# Altium footprint library TimerSMD_Models.PcbLib: 32 footprints (part 2 of 2)
Each footprint in its own frame and in the unit in brackets; x right, y up, seen from the top. Pads: shape width x height; smd on the part's side, far side on the other; paste and mask are expansions set on the pad; w line width, h text height; cw(c..) or ccw(c..) is an arc to the next point about the centre after c.
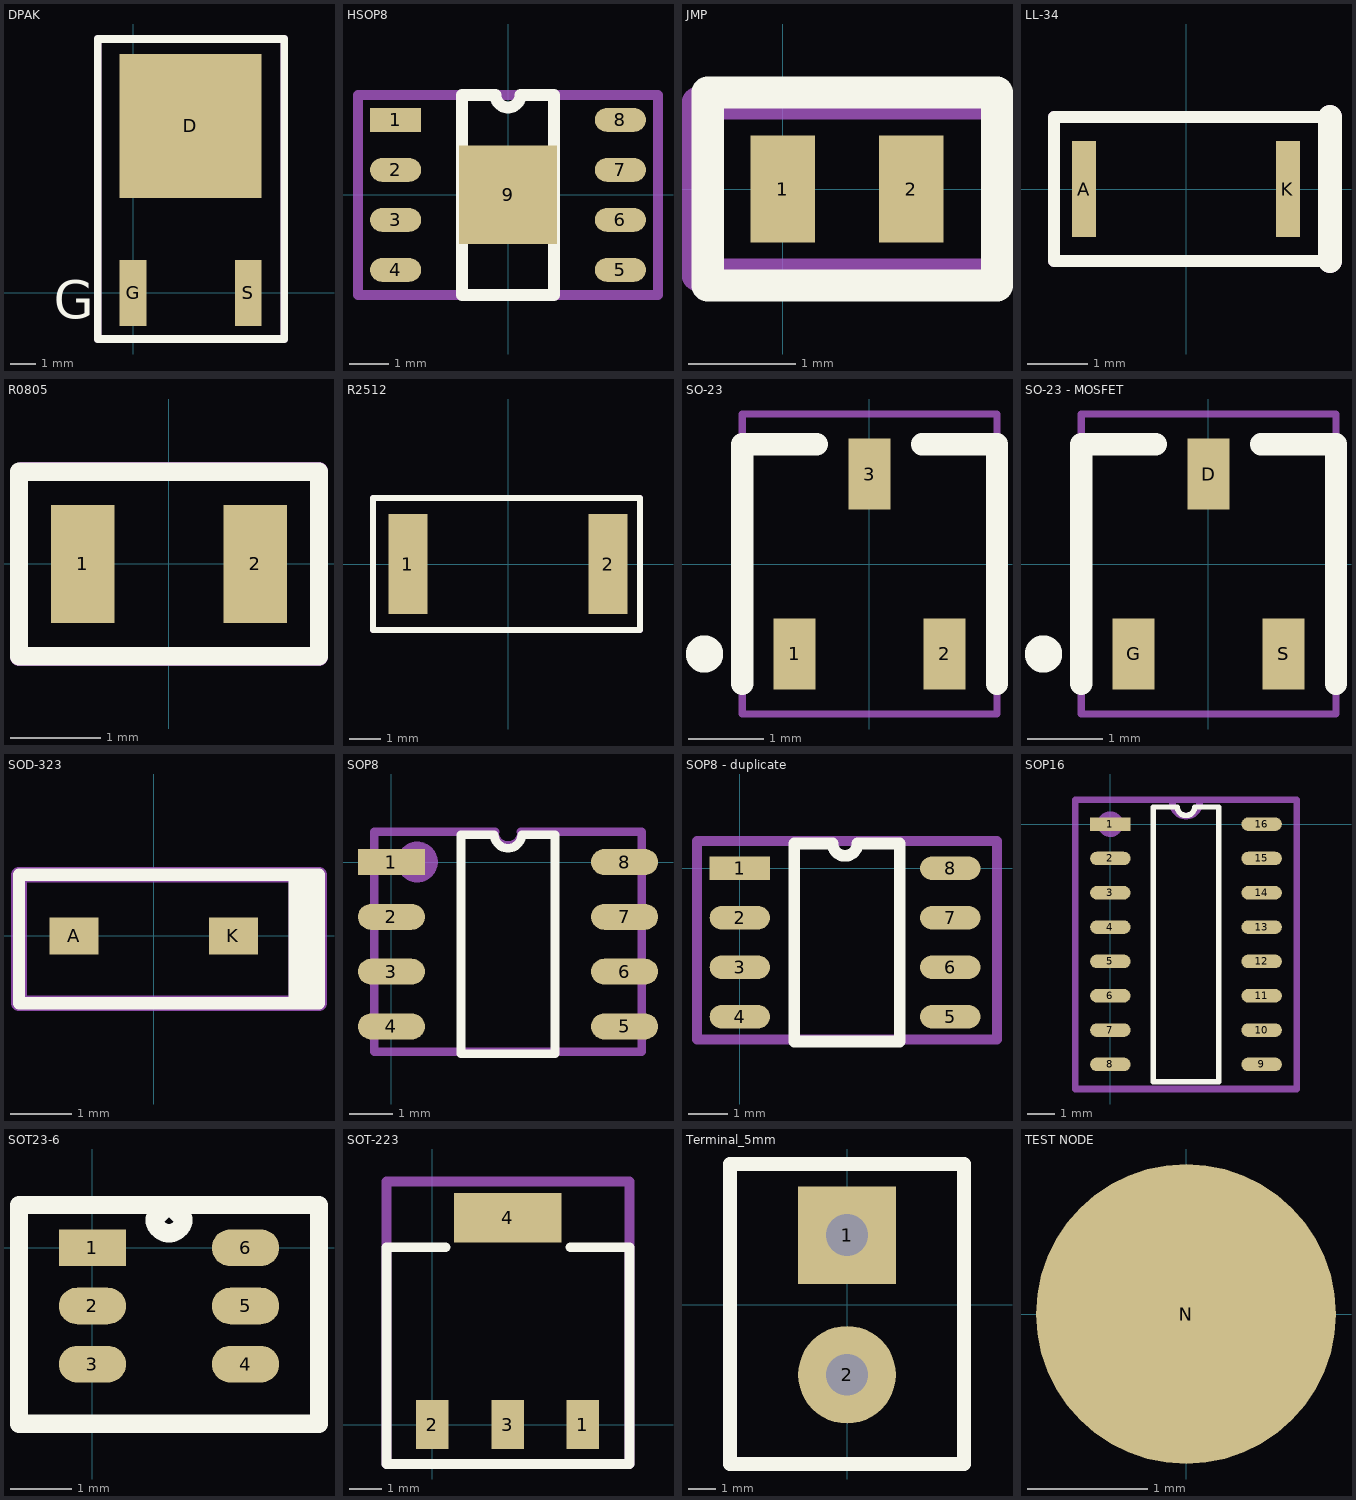
[diagram p1: the footprints below, top view; thin cyan lines are the x and y axes]

## DPAK [mm]
pads (3):
  rect 5.632x5.7 smd: D(2.275,6.625)
  rect 1.06x2.6 smd: G(0,0) S(4.572,0)
Top Overlay:
  lines w0.3: -1.4,-1.825 -1.4,8.225 -1.4,10.075 6,10.075 6,-1.825 -1.4,-1.825
  text "G" at -3.15,-1.025 h1.5
Mechanical 2:
  lines w0.3: -1.4,-1.825 -1.4,8.225 -1.4,10.075 6,10.075 6,-1.825 -1.4,-1.825
  text ".Designator" at -0.375,3.425 h1.5
3D body "TO252 Gehäuse.step": height 2.3, standoff -0.05, extent -0.975,-0.5 5.525,8.2

## HSOP8 [mm]
pads (9):
  rect 1.3x0.6 smd: 1(-2.854,1.905)
  oval 1.3x0.6 smd: 2(-2.854,0.635) 3(-2.854,-0.635) 4(-2.854,-1.905) 5(2.854,-1.905) 6(2.854,-0.635) 7(2.854,0.635) 8(2.854,1.905)
  rect 2.5x2.5 smd: 9(0,0)
Top Overlay:
  lines w0.3: -1.165,-2.54 1.165,-2.54 1.165,2.54 0.318,2.54 cw(c0,2.54) -0.318,2.54 -1.165,2.54 -1.165,-2.54
Mechanical 2:
  lines w0.254: -3.81,-2.54 -3.81,2.413 -3.81,2.54 3.81,2.54 3.81,-2.54 -3.81,-2.54
  text ".Designator" at -3.175,-1.016 h1.52
3D body "User Library-HSOP-8-DDA.step": height 1.7, standoff 0, extent -3.074,-2.346 2.954,2.346

## JMP [mm]
pads (2):
  rect 0.6x1 smd: 1(0,0) 2(1.2,0)
Top Overlay:
  lines w0.3: -0.7,-0.9 2,-0.9 2,0.9 -0.7,0.9 -0.7,-0.9
Mechanical 2:
  lines w0.3: -0.8,-0.8 2,-0.8 2,0.8 -0.8,0.8 -0.8,-0.8
  text ".Designator" at -0.2,-0.367 h0.7

## LL-34 [mm]
pads (2):
  rect 0.4x1.6 smd: A(-1.7,0) K(1.7,0)
Top Overlay:
  lines w0.2: 2.4,-1.2 -2.2,-1.2 -2.2,1.2 2.4,1.2
  lines w0.4: 2.4,-1.2 2.4,1.2
Mechanical 2:
  lines w0.2: 2.4,-1.2 -2.2,-1.2 -2.2,1.2 2.4,1.2
  lines w0.4: 2.4,-1.2 2.4,1.2
  text ".Designator" at -1.6,-0.6 h1
3D body "LL-34.step": height 1.45, standoff -0.05, extent -1.75,-0.75 1.75,0.75

## R0805 [mm]
pads (2):
  rect 0.7x1.3 smd: 1(-0.95,0) 2(0.95,0)
Top Overlay:
  lines w0.2: -1.651,-1.016 -1.651,1.016 1.651,1.016 1.651,-1.016 -1.651,-1.016
Mechanical 2:
  lines w0.2: 1.65,1.025 1.65,-1.025 -1.65,-1.025 -1.65,1 -1.625,1.025 1.65,1.025 ; 1.65,1.025 1.65,1.025
  text ".Designator" at -0.75,-0.425 h1
3D body "User Library-Chip Resistor2.step": height 0.71, standoff 0.01, extent -1,-0.6 1,0.6

## R2512 [mil]
pads (2):
  rect 49x125 smd: 1(-125.5,0) 2(125.5,0)
Top Overlay:
  lines w7.87: -169.29,-82.68 -169.29,16.63 -169.29,82.68 165.35,82.68 165.35,-82.68 -169.29,-82.68
Mechanical 2:
  lines w7.87: -169.29,-82.68 -169.29,16.63 -169.29,82.68 165.35,82.68 165.35,-82.68 -169.29,-82.68
  text ".Designator" at -114.17,-19.68 h39.37
3D body "CircuitWorks-RESISTOR 2512.step": height 24.52, standoff 0.5, extent -125,-64.17 125,64.17

## SO-23 [mm]
pads (3):
  rect 0.56x0.95 smd: 1(-1,-1.2) 2(1,-1.2) 3(0,1.2)
Top Overlay:
  circle w0.3: c-2.2,-1.2 r0.1
  lines w0.3: -1.7,-1.6 -1.7,1.6 -0.7,1.6 ; 0.7,1.6 1.7,1.6 1.7,-1.6
Mechanical 2:
  lines w0.1: -1.7,-2 -1.7,2 1.7,2 1.7,-2 -1.7,-2
  text ".Designator" at -1.3,-0.367 h1
3D body "SOT23-3.stp": height 1.2, standoff 0.02, extent -1.5,-1.418 1.5,1.418

## SO-23 - MOSFET [mm]
pads (3):
  rect 0.56x0.95 smd: D(0,1.2) G(-1,-1.2) S(1,-1.2)
Top Overlay:
  circle w0.3: c-2.2,-1.2 r0.1
  lines w0.3: -1.7,-1.6 -1.7,1.6 -0.7,1.6 ; 0.7,1.6 1.7,1.6 1.7,-1.6
Mechanical 2:
  lines w0.1: -1.7,-2 -1.7,2 1.7,2 1.7,-2 -1.7,-2
  text ".Designator" at -1.3,-0.367 h1
3D body "SOT23-3.stp": height 1.2, standoff 0.02, extent -1.5,-1.418 1.5,1.418

## SOD-323 [mm]
pads (2):
  rect 0.8x0.6 smd: A(-1.3,0) K(1.3,0)
Top Overlay:
  rectangle: 2.2,-1.1 2.7,1
  lines w0.2: -2.2,-1.1 2.7,-1.1 2.7,1 0.1,1 -2.2,1 -2.2,-1.1
Mechanical 2:
  rectangle: 2.2,-1.1 2.7,1
  lines w0.254: -2.2,-1.1 -2.2,1 2.7,1 2.7,-1.1 -2.2,-1.1
  text ".Designator" at -1.7,-0.8 h1.5
3D body "User Library-SOD-323.step": height 1.1, standoff 0, extent -1.3,-0.675 1.3,0.675

## SOP8 [mm]
pads (8):
  rect 1.55x0.6 smd: 1(0,0)
  oval 1.55x0.6 smd: 2(0,-1.27) 3(0,-2.54) 4(0,-3.81) 5(5.4,-3.81) 6(5.4,-2.54) 7(5.4,-1.27) 8(5.4,0)
Top Overlay:
  lines w0.2: 1.61,-4.445 1.61,0.635 2.382,0.635 ccw(c2.7,0.635) 3.017,0.635 3.79,0.635 3.79,-4.445 1.61,-4.445
Mechanical 2:
  circle w0.5: c0.6,0 r0.224
  lines w0.2: 2.382,0.7 ccw(c2.7,0.7) 3.017,0.7 ; 2.4,0.7 -0.4,0.7 -0.4,-4.4 5.8,-4.4 5.8,0.7 3,0.7
  text ".Designator" at 0.8,-2.4 h1
3D body "bd6210f-e2.stp": height 1.62, standoff 0.01, extent -0.433,-4.365 5.767,0.635

## SOP8 - duplicate [mm]
pads (8):
  rect 1.55x0.6 smd: 1(0,0)
  oval 1.55x0.6 smd: 2(0,-1.27) 3(0,-2.54) 4(0,-3.81) 5(5.4,-3.81) 6(5.4,-2.54) 7(5.4,-1.27) 8(5.4,0)
Top Overlay:
  lines w0.3: 1.4,-4.445 4.1,-4.445 4.1,0.635 3.017,0.635 cw(c2.7,0.635) 2.382,0.635 1.4,0.635 1.4,-4.445
Mechanical 2:
  lines w0.254: -1.1,-4.4 6.6,-4.4 6.6,0.7 6.3,0.7 -1.1,0.7 -1.1,-4.4
3D body "bd6210f-e2.stp": height 1.62, standoff 0.01, extent -0.433,-4.365 5.767,0.635

## SOP16 [mm]
pads (16):
  rect 1.5x0.5 smd: 1(0,0)
  oval 1.5x0.5 smd: 2(0,-1.27) 3(0,-2.54) 4(0,-3.81) 5(0,-5.08) 6(0,-6.35) 7(0,-7.62) 8(0,-8.89) 9(5.6,-8.89) 10(5.6,-7.62) 11(5.6,-6.35) 12(5.6,-5.08) 13(5.6,-3.81) 14(5.6,-2.54) 15(5.6,-1.27) 16(5.6,0)
Top Overlay:
  lines w0.2: 1.585,-9.525 1.585,0.635 2.482,0.635 ccw(c2.8,0.635) 3.117,0.635 4.015,0.635 4.015,-9.525 1.585,-9.525
Mechanical 2:
  circle w0.5: c0,0 r0.224
  lines w0.254: 2.3,0.8 ccw(c2.8,0.8) 3.3,0.8 ; -1.3,-9.8 6.9,-9.8 6.9,0.9 2.6,0.9 -1.3,0.9 -1.3,-9.8
  text ".Designator" at -0.3,-6.3 h3
3D body "User Library-SOIC127P600X175-16.step": height 1.65, standoff 0, extent -0.24,-9.5 5.84,0.5

## SOT23-6 [mm]
pads (6):
  rect 1.1x0.6 smd: 1(0,0)
  oval 1.1x0.6 smd: 2(0,-0.95) 3(0,-1.9) 4(2.5,-1.9) 5(2.5,-0.95) 6(2.5,0)
Top Overlay:
  lines w0.3: -1.2,-2.875 0.025,-2.875 2.475,-2.875 3.7,-2.875 3.7,0.7 1.238,0.7 1.012,0.475 ccw(c1.25,0.475) 1.488,0.475 1.262,0.7 -1.2,0.7 -1.2,-2.875
3D body "sot-23-6.stp": height 1.15, standoff 0.04, extent -0.222,-2.461 2.622,0.46

## SOT-223 [mil]
pads (4):
  rect 39x59 smd: 1(180,0) 2(0,0) 3(90,0)
  rect 129x59 smd: 4(90,248)
Top Overlay:
  lines w11.81: 15.75,212.6 -55.12,212.6 -55.12,-47.24 236.22,-47.24 236.22,212.6 165.35,212.6
Mechanical 2:
  lines w11.81: -55.12,-47.24 236.22,-47.24 236.22,291.34 -55.12,291.34 -55.12,-47.24
  text ".Designator" at -3.94,102.36 h78.74
3D body "TO-261AA.stp": height 70.87, standoff 0, extent -41.33,-9.83 222.45,277.56

## Terminal_5mm [mm]
pads (2):
  rect 3.5x3.5 hole 1.5: 1(0,2.5)
  round 3.5 hole 1.5: 2(0,-2.5)
Top Overlay:
  lines w0.5: -4.2,-5.7 -4.2,5.05 4.2,5.05 4.2,-5.7 -4.2,-5.7
Mechanical 2:
  lines w0.2: -4.2,-5.675 -4.2,5.05 4.2,5.05 4.2,-5.675 -4.2,-5.675
  text ".Designator" at -1.05,-1.275 h3
3D body "1729018.stp": height 10.01, standoff -3.49, extent -4.075,-5.585 4.075,4.985

## TEST NODE [mm]
pads (1):
  round 2.5 smd: N(0,0)